# Altium footprint library MOLEX_0901310767.PcbLib: 1 footprints
Each footprint in its own frame and in the unit in brackets; x right, y up, seen from the top. Pads: shape width x height; smd on the part's side, far side on the other; paste and mask are expansions set on the pad; w line width, h text height; cw(c..) or ccw(c..) is an arc to the next point about the centre after c.
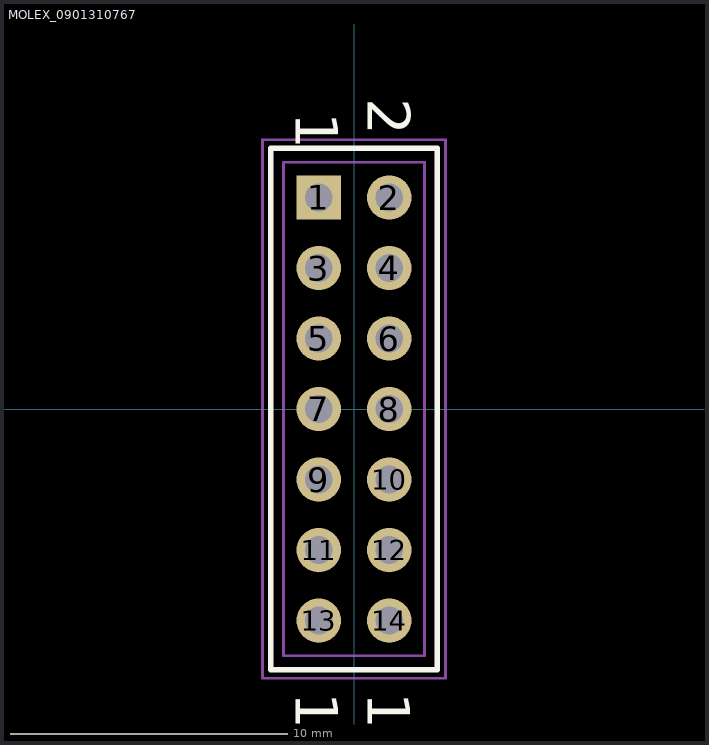
[diagram p0: the footprint, top view; thin cyan lines are the x and y axes]

## MOLEX_0901310767 [mm]
pads (14):
  rect 1.6x1.6 hole 1: 1(-1.27,7.62)
  round 1.6 hole 1: 2(1.27,7.62) 3(-1.27,5.08) 4(1.27,5.08) 5(-1.27,2.54) 6(1.27,2.54) 7(-1.27,0) 8(1.27,0) 9(-1.27,-2.54) 10(1.27,-2.54) 11(-1.27,-5.08) 12(1.27,-5.08) 13(-1.27,-7.62) 14(1.27,-7.62)
Top Overlay:
  lines w0.2: -3,-9.4 -3,9.4 3,9.4 3,-9.4 -3,-9.4
  text "14" at 0.5,-10.2 h1.52
  text "13" at -2.1,-10.2 h1.52
  text "2" at 0.5,11.2 h1.52
  text "1" at -2.1,10.7 h1.52
Mechanical 13:
  lines w0.1: -2.54,-8.89 2.54,-8.89 2.54,8.89 -2.54,8.89 -2.54,-8.89
Mechanical 15:
  lines w0.1: -3.3,-9.7 3.3,-9.7 3.3,9.7 -3.3,9.7 -3.3,-9.7
3D body: height 9.25, standoff -2.9, extent -2.54,-8.89 2.54,8.89